# EAGLE library part RTC-CHRONODOT-ADAFRUIT255 (library BOBs)
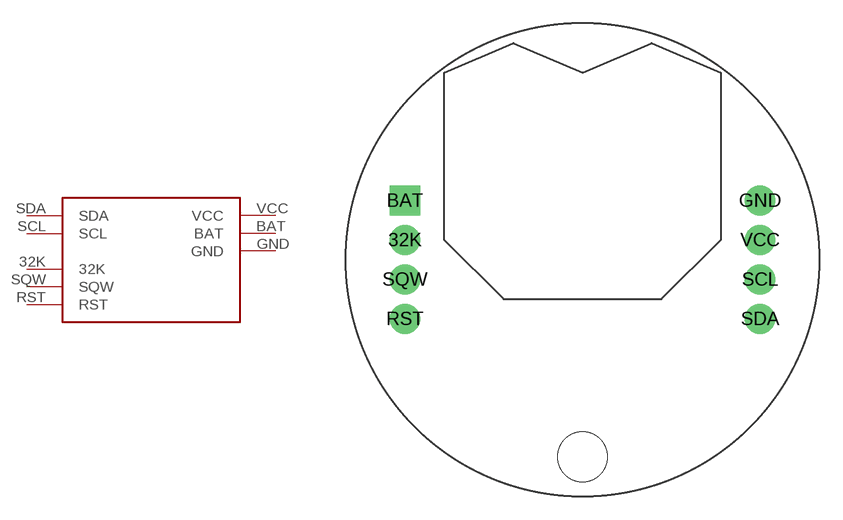
[diagram p12: symbol with the pads of RTC-CHRONODOT-ADAFRUIT255; footprint RTC-CHRONODOT-ADAFRUIT255]

Designator prefix -

## RTC-CHRONODOT-ADAFRUIT255-BOB (DIST: Adafruit; DISTPN: 255)  [RTC-CHRONODOT-ADAFRUIT255]
32K  32K
BAT  BAT
GND  GND
RST  RST
SCL  SCL
SDA  SDA
SQW  SQW
VCC  VCC

## Footprint RTC-CHRONODOT-ADAFRUIT255 (pad centres in mm)
drill 1.3: 32K -11.43,1.27; GND 11.43,3.81; RST -11.43,-3.81; SCL 11.43,-1.27; SDA 11.43,-3.81; SQW -11.43,-1.27; VCC 11.43,1.27
drill 1.3 square: BAT -11.43,3.81
hole 3.2 at 0,-12.7